# Altium footprint library solidstate-power.PcbLib: 19 footprints (part 1 of 2)
Each footprint in its own frame and in the unit in brackets; x right, y up, seen from the top. Pads: shape width x height; smd on the part's side, far side on the other; paste and mask are expansions set on the pad; w line width, h text height; cw(c..) or ccw(c..) is an arc to the next point about the centre after c.
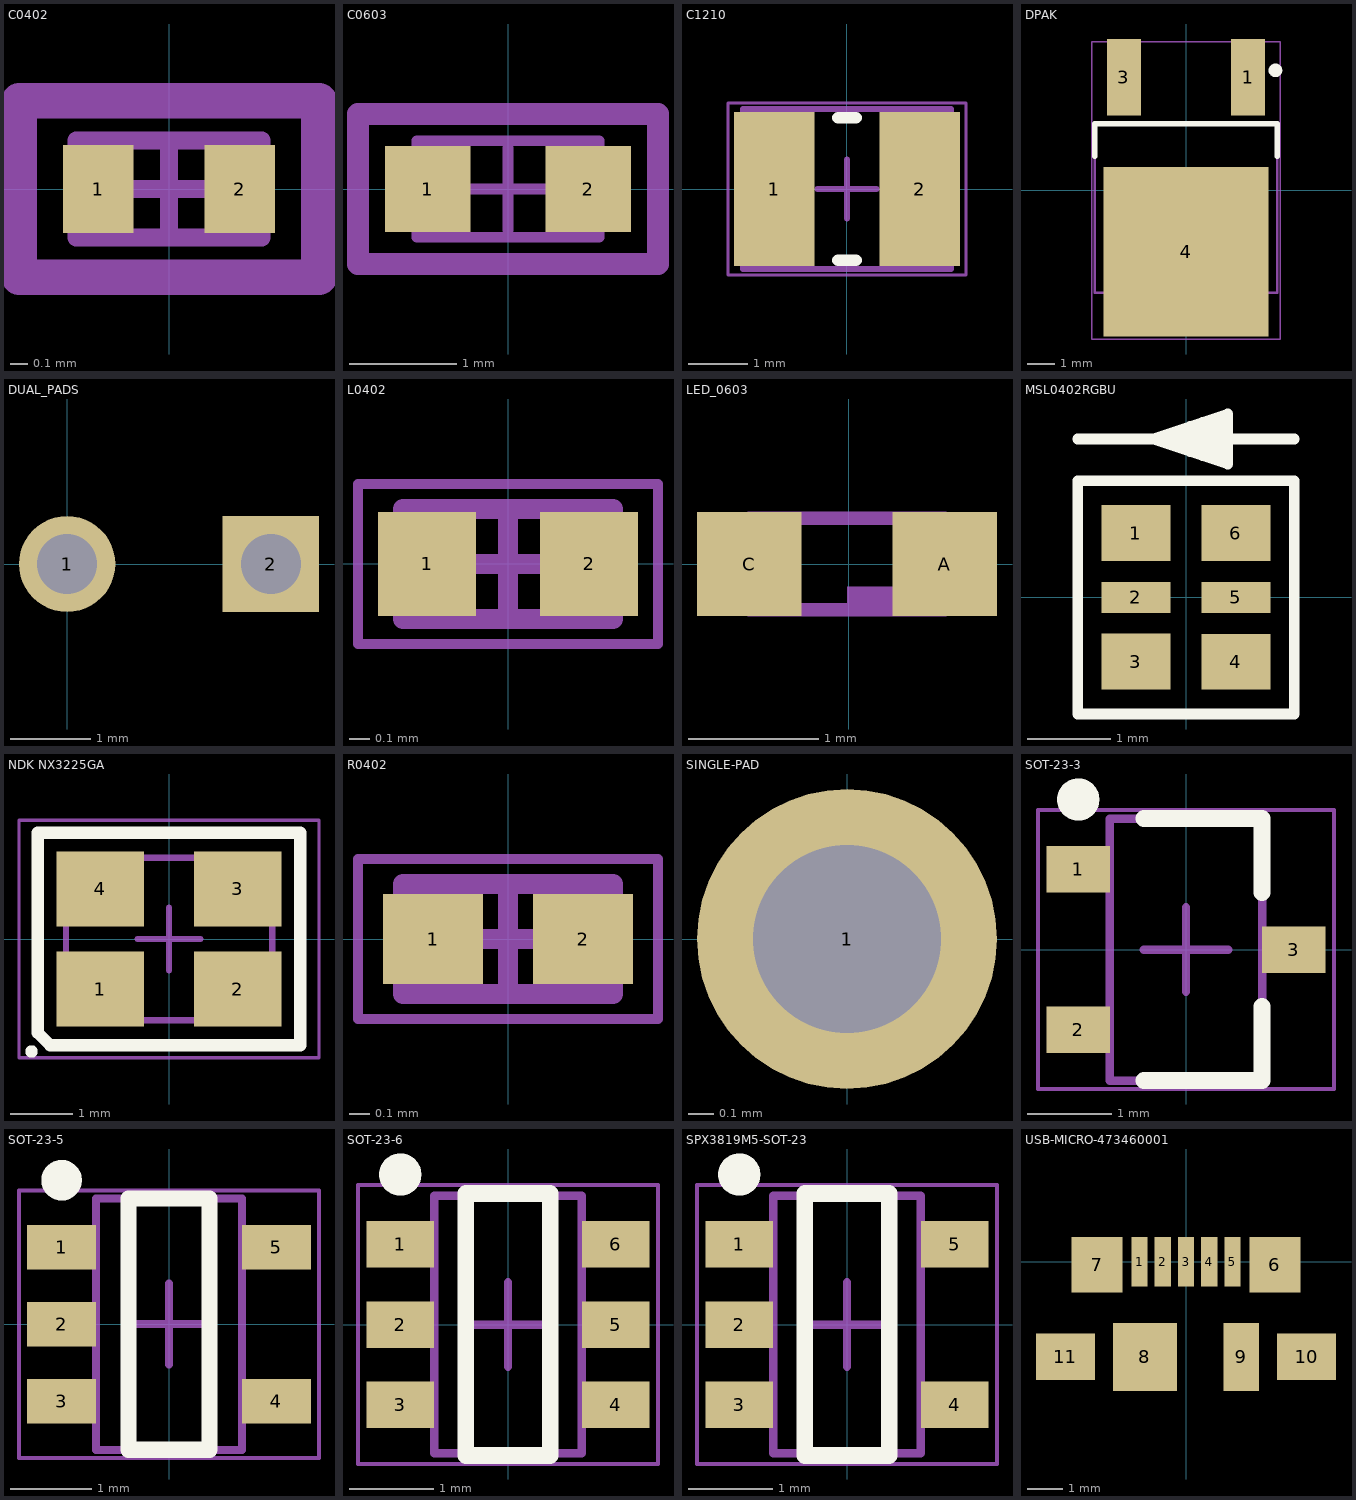
[diagram p0: the footprints below, top view; thin cyan lines are the x and y axes]

## C0402 [mm] "Chip Capacitor, 2-Leads, Body 1.00x0.50mm, IPC Medium Density"
height 0.55
pads (2):
  rect 0.4x0.5 smd: 1(-0.4,0) 2(0.4,0)
Mechanical 12:
  lines w0.1: -0.254,0 0.254,0 ; 0,-0.254 0,0.254
Mechanical 13:
  lines w0.1: -0.525,-0.275 0.525,-0.275 0.525,0.275 -0.525,0.275 -0.525,-0.275
Mechanical 15:
  lines w0.203: -0.85,-0.5 0.85,-0.5 0.85,0.5 -0.85,0.5 -0.85,-0.5
  text ".Designator" at -0.7,-0.2 h0.33
3D body "CAPC1005X06N.step": height 0.55, standoff 0, extent -0.525,-0.275 0.525,0.275

## C0603 [mm] "Chip Capacitor, 2-Leads, Body 1.60x0.80mm, IPC Medium Density"
height 0.9
pads (2):
  rect 0.8x0.8 smd: 1(-0.75,0) 2(0.75,0)
Mechanical 12:
  lines w0.1: -0.381,0 0.381,0 ; 0,-0.381 0,0.381
  lines w0.203: -1.4,-0.7 1.4,-0.7 1.4,0.7 -1.4,0.7 -1.4,-0.7
Mechanical 13:
  lines w0.1: -0.85,-0.45 -0.85,0.45 0.85,0.45 0.85,-0.45 -0.85,-0.45
Mechanical 15:
  lines w0.203: -1.4,-0.7 -1.4,0.7 1.4,0.7 1.4,-0.7 -1.4,-0.7
  text ".Designator" at -1.2,-0.4 h0.64
3D body "CAPC1608X09N.step": height 0.9, standoff 0, extent -0.85,-0.45 0.85,0.45

## C1210 [mm] "Chip Capacitor, 2-Leads, Body 3.20x2.50mm, IPC High Density"
height 2.5
pads (2):
  rect 1.35x2.6 smd: 1(-1.225,0) 2(1.225,0)
Top Overlay:
  lines w0.2: -0.15,-1.2 0.15,-1.2 ; -0.15,1.2 0.15,1.2
Mechanical 13:
  lines w0.1: -1.75,-1.35 -1.75,1.35 1.75,1.35 1.75,-1.35 -1.75,-1.35
Mechanical 15:
  lines w0.05: -2,-1.45 -2,1.45 2,1.45 2,-1.45 -2,-1.45
  lines w0.1: -0.5,0 0.5,0 ; 0,-0.5 0,0.5
3D body "CAPC3225X25L.step": height 2.5, standoff 0, extent -1.75,-1.35 1.75,1.35

## DPAK [mm]
pads (3):
  rect 1.25x2.8 smd: 1(2.28,4.15) 3(-2.28,4.15)
  rect 6.05x6.2 smd: 4(0,-2.25)
Top Overlay:
  circle w0.25: c3.28,4.4 r0.125
  lines w0.2: -3.35,1.25 -3.35,2.45 3.35,2.45 3.35,1.25
Mechanical 13:
  lines w0.1: -3.35,-3.75 -3.35,2.45 3.35,2.45 3.35,-3.75 -3.35,-3.75
Mechanical 15:
  lines w0.05: -3.45,-5.45 -3.45,5.45 3.45,5.45 3.45,-5.45 -3.45,-5.45
  lines w0.1: -0.5,0 0.5,0 ; 0,-0.5 0,0.5
3D body "DPAK228P991X239-3L.step": height 2.39, standoff 0, extent -3.35,-5.235 3.35,4.67

## DUAL_PADS [mm]
pads (2):
  round 1.2 hole 0.75: 1(0,0)
  rect 1.2x1.2 hole 0.75: 2(2.54,0)

## L0402 [mm] "Chip Inductor, 2-Leads, Body 1.00x0.50mm, IPC High Density"
height 0.5
pads (2):
  rect 0.49x0.52 smd: 1(-0.405,0) 2(0.405,0)
Mechanical 13:
  lines w0.1: -0.525,-0.275 -0.525,0.275 0.525,0.275 0.525,-0.275 -0.525,-0.275
Mechanical 15:
  lines w0.05: -0.75,-0.4 -0.75,0.4 0.75,0.4 0.75,-0.4 -0.75,-0.4
  lines w0.1: -0.275,0 0.275,0 ; 0,-0.275 0,0.275
3D body "INDC1005X05L.step": height 0.5, standoff 0, extent -0.525,-0.275 0.525,0.275

## LED_0603 [mil]
pads (2):
  rect 31.5x31.5 smd: A(29.06,0) C(-30,0)
Mechanical 2:
  region: 9.37,-6.89 9.37,-15.75 -0.47,-15.75 -0.47,-6.89
  lines w4: -8.34,-13.78 7.4,-13.78 ; -8.34,13.78 7.4,13.78
Mechanical 8:
  region: 15.28,-6.89 15.28,-15.75 -0.47,-15.75 -0.47,-6.89
  lines w4: -18.19,-11.81 -18.19,11.81 ; 17.25,-11.81 17.25,11.81 ; -30,-13.78 -30,13.78 29.06,13.78 29.06,-13.78 -30,-13.78
3D body "0603_single.stp": height 28, standoff -0.5, extent -32,-15.5 32,15.5

## MSL0402RGBU [mm]
pads (6):
  rect 0.83x0.67 smd: 1(-0.6,0.772) 3(-0.6,-0.772) 4(0.6,-0.772) 6(0.6,0.772)
  rect 0.83x0.37 smd: 2(-0.6,0) 5(0.6,0)
Top Overlay:
  lines w0.127: -1.3,1.9 -0.4,1.9 ; 0.7,1.9 -0.4,1.9 ; 1.3,1.9 0.5,1.9 ; -0.4,1.9 0.5,1.6 ; -0.4,1.9 0.5,2.2 ; -0.4,1.9 0.1,1.8 ; -0.4,1.9 0.1,2 ; 0.1,1.8 0.1,2 ; 0.1,1.8 0.5,1.9 ; 0.1,2 0.5,1.9 ; 0.5,1.6 0.5,2.2 ; 0.5,1.6 0.05,1.75 0.5,2.2 ; 0.5,1.6 0.05,2.05 0.2,2.1 0.5,1.6 ; 0.5,1.6 0.2,1.7 0.5,2.2 ; -1.3,-1.4 1.3,-1.4 1.3,1.4 -1.3,1.4 -1.3,-1.4
3D body "MSL04.step": height 0.48, standoff -0.02, extent -0.8,-0.9 0.8,0.9

## NDK NX3225GA [mm] "Crystal, 4-Leads, Body 2.50x3.20mm, Pitch 2.20mm, IPC Medium Density"
height 0.6
pads (4):
  rect 1.4x1.2 smd: 1(-1.1,-0.8) 2(1.1,-0.8) 3(1.1,0.8) 4(-1.1,0.8)
Top Overlay:
  circle w0.1: c-2.2,-1.8 r0.05
  lines w0.2: -2.1,-1.5 -2.1,1.7 2.1,1.7 2.1,-1.7 -1.1,-1.7 -1.9,-1.7 -2.1,-1.5
Mechanical 13:
  lines w0.1: -1.65,-1.3 -1.65,1.3 1.65,1.3 1.65,-1.3 -1.65,-1.3
Mechanical 15:
  lines w0.05: -2.4,-1.9 -2.4,1.9 2.4,1.9 2.4,-1.9 -2.4,-1.9
  lines w0.1: -0.5,0 0.5,0 ; 0,-0.5 0,0.5
3D body "NDK NX3225GA.STEP": height 0.75, standoff 0, extent -1.61,-1.26 1.61,1.26

## R0402 [mm] "Chip Resistor, 2-Leads, Body 1.00x0.50mm, IPC High Density"
height 0.5
pads (2):
  rect 0.5x0.45 smd: 1(-0.375,0) 2(0.375,0)
Mechanical 13:
  lines w0.1: -0.525,-0.275 -0.525,0.275 0.525,0.275 0.525,-0.275 -0.525,-0.275
Mechanical 15:
  lines w0.05: -0.75,-0.4 -0.75,0.4 0.75,0.4 0.75,-0.4 -0.75,-0.4
  lines w0.1: -0.275,0 0.275,0 ; 0,-0.275 0,0.275
3D body "RESC1005X05L.step": height 0.5, standoff 0, extent -0.525,-0.275 0.525,0.275

## SINGLE-PAD [mm]
pads (1):
  round 1.2 hole 0.75: 1(0,0)

## SOT-23-3 [mm] "SOT23, 3-Leads, Body 2.95x2.80mm, Pitch 0.95mm, IPC High Density"
height 0.85
pads (3):
  rect 0.75x0.55 smd: 1(-1.275,0.95) 2(-1.275,-0.95) 3(1.275,0)
Top Overlay:
  circle w0.25: c-1.275,1.775 r0.125
  lines w0.2: -0.5,-1.55 0.9,-1.55 0.9,-0.675 ; -0.5,1.55 0.9,1.55 0.9,0.675
Mechanical 13:
  lines w0.1: -0.9,-1.55 -0.9,1.55 0.9,1.55 0.9,-1.55 -0.9,-1.55
Mechanical 15:
  lines w0.05: -1.75,-1.65 -1.75,1.65 1.75,1.65 1.75,-1.65 -1.75,-1.65
  lines w0.1: -0.5,0 0.5,0 ; 0,-0.5 0,0.5
3D body "SOT95P280X85-3L.step": height 0.85, standoff 0, extent -1.5,-1.55 1.5,1.55

## SOT-23-5 [mm] "SOT23, 5-Leads, Body 2.90x2.70mm, Pitch 0.95mm, IPC High Density"
height 1.45
pads (5):
  rect 0.85x0.55 smd: 1(-1.325,0.95) 2(-1.325,0) 3(-1.325,-0.95) 4(1.325,-0.95) 5(1.325,0.95)
Top Overlay:
  circle w0.25: c-1.325,1.775 r0.125
  lines w0.2: -0.5,-1.55 0.5,-1.55 0.5,1.55 -0.5,1.55 -0.5,-1.55
Mechanical 13:
  lines w0.1: -0.9,-1.55 -0.9,1.55 0.9,1.55 0.9,-1.55 -0.9,-1.55
Mechanical 15:
  lines w0.05: -1.85,-1.65 -1.85,1.65 1.85,1.65 1.85,-1.65 -1.85,-1.65
  lines w0.1: -0.5,0 0.5,0 ; 0,-0.5 0,0.5
3D body "SOT95P270X145-5L.step": height 1.45, standoff 0, extent -1.7,-1.55 1.7,1.55

## SOT-23-6 [mm] "SOT23, 6-Leads, Body 2.90x2.80mm, Pitch 0.95mm, IPC High Density"
height 1.15
pads (6):
  rect 0.8x0.55 smd: 1(-1.275,0.95) 2(-1.275,0) 3(-1.275,-0.95) 4(1.275,-0.95) 5(1.275,0) 6(1.275,0.95)
Top Overlay:
  circle w0.25: c-1.275,1.775 r0.125
  lines w0.2: -0.5,-1.55 -0.5,1.55 0.5,1.55 0.5,-1.55 -0.5,-1.55
Mechanical 13:
  lines w0.1: -0.875,-1.525 0.875,-1.525 0.875,1.525 -0.875,1.525 -0.875,-1.525
Mechanical 15:
  lines w0.05: -1.775,-1.65 1.775,-1.65 1.775,1.65 -1.775,1.65 -1.775,-1.65
  lines w0.1: -0.5,0 0.5,0 ; 0,-0.5 0,0.5
3D body "SOT95P280X115-6L.step": height 1.15, standoff 0, extent -1.525,-1.525 1.525,1.525

## SPX3819M5-SOT-23 [mm] "SOT23, 5-Leads, Body 2.90x2.80mm, Pitch 0.95mm, IPC High Density"
height 1.15
pads (5):
  rect 0.8x0.55 smd: 1(-1.275,0.95) 2(-1.275,0) 3(-1.275,-0.95) 4(1.275,-0.95) 5(1.275,0.95)
Top Overlay:
  circle w0.25: c-1.275,1.775 r0.125
  lines w0.2: -0.5,-1.55 0.5,-1.55 0.5,1.55 -0.5,1.55 -0.5,-1.55
Mechanical 13:
  lines w0.1: -0.875,-1.525 -0.875,1.525 0.875,1.525 0.875,-1.525 -0.875,-1.525
Mechanical 15:
  lines w0.05: -1.775,-1.65 -1.775,1.65 1.775,1.65 1.775,-1.65 -1.775,-1.65
  lines w0.1: -0.5,0 0.5,0 ; 0,-0.5 0,0.5
3D body "SOT95P280X115-5L.step": height 1.15, standoff 0, extent -1.525,-1.525 1.525,1.525

## USB-MICRO-473460001 [mm]
pads (11):
  rect 0.45x1.38 smd: 1(-1.3,0) 2(-0.65,0) 3(0,0) 4(0.65,0) 5(1.3,0)
  rect 1.425x1.55 smd: 6(2.488,-0.085) 7(-2.488,-0.085)
  rect 1.8x1.9 smd: 8(-1.15,-2.66)
  rect 1x1.9 smd: 9(1.55,-2.66)
  rect 1.65x1.3 smd: 10(3.375,-2.66) 11(-3.375,-2.66)
3D body "473460001.stp": height 2.68, standoff -0.26, extent -3.99,-5.18 3.99,0.25